# EAGLE library part RFM95 (library IoT-library)
RFM95 module
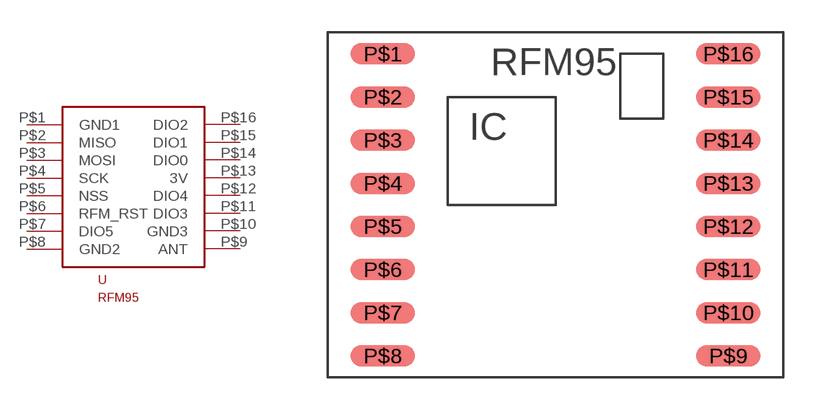
[diagram p0: symbol with the pads of RFM95; footprint RFM95]

Designator prefix -

## RFM95 (DESC: lora rfm95)  [RFM95]
P$1  GND1
P$2  MISO
P$3  MOSI
P$4  SCK
P$5  NSS
P$6  RFM_RST
P$7  DIO5
P$8  GND2
P$9  ANT
P$10  GND3
P$11  DIO3
P$12  DIO4
P$13  3V
P$14  DIO0
P$15  DIO1
P$16  DIO2

## Footprint RFM95 (pad centres in mm)
smd 3 x 1: P$1 0,15; P$2 0,13; P$3 0,11; P$4 0,9; P$5 0,7; P$6 0,5; P$7 0,3; P$8 0,1; P$9 16,1; P$10 16,3; P$11 16,5; P$12 16,7; P$13 16,9; P$14 16,11; P$15 16,13; P$16 16,15